# EAGLE library part TSM-106-01-T-DV-TR (library CONNECTORs)
TSM-106-01-T-DV-TR - Board-To-Board Connector, 2.54 mm, 12 Contacts, Header, TSM Series, Surface Mount, 2 Rows
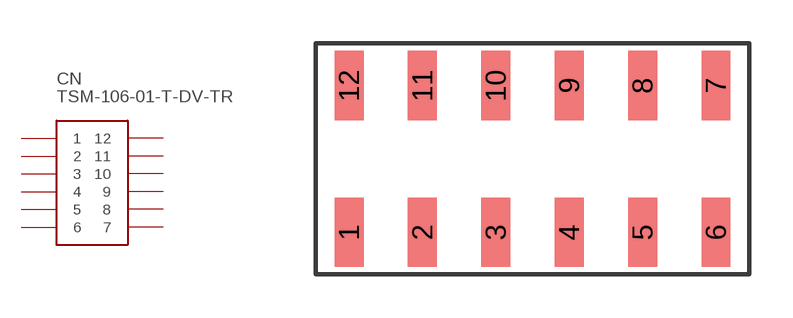
[diagram p40: symbol with the pads of TSM-106-01-T-DV-TR; footprint TSM-106-01-T-DV-TR]

Designator prefix CN

## TSM-106-01-T-DV-TR (FARNELL: 2418579; HEIGHT: 9.65; PRICE_PER: 0.61; VALUE: SM 2x6PIN)  [TSM-106-01-T-DV-TR]
1  1
2  2
3  3
4  4
5  5
6  6
7  7
8  8
9  9
10  10
11  11
12  12

## Footprint TSM-106-01-T-DV-TR (pad centres in mm)
smd 1 x 2.4: 1 -6.35,-2.54; 2 -3.81,-2.54; 3 -1.27,-2.54; 4 1.27,-2.54; 5 3.81,-2.54; 6 6.35,-2.54; 7 6.35,2.54; 8 3.81,2.54; 9 1.27,2.54; 10 -1.27,2.54; 11 -3.81,2.54; 12 -6.35,2.54